# EAGLE library part 9565517513 (library D-Sub Connectors)
CONN D-SUB HD RCPT 78P VERT SLDR Manufacturer's datasheet <https://b2b.harting.com/files/download/PRD/PDF_TS/0956551X513_100513366DRW001C.pdf>
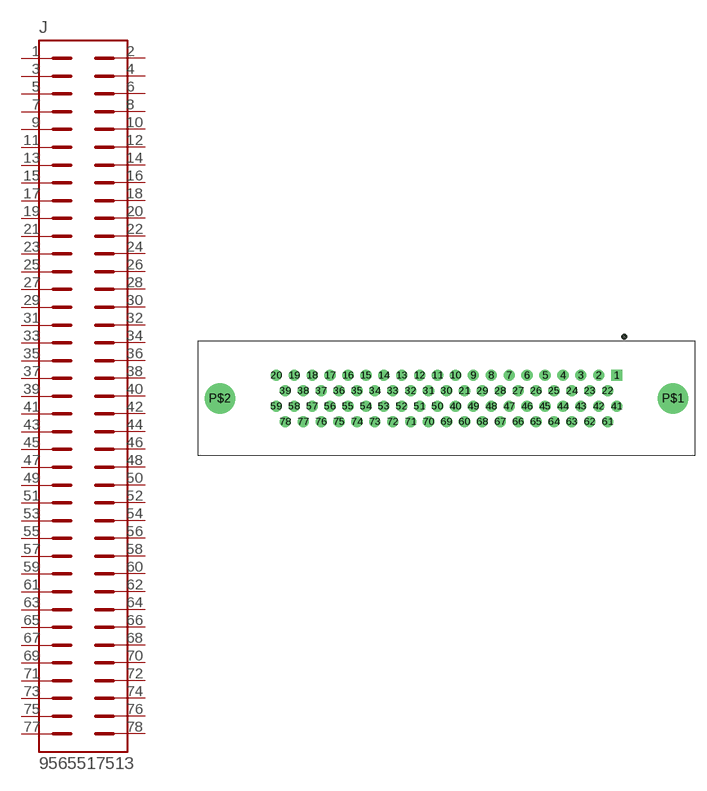
[diagram p12: symbol with the pads of 9565517513; footprint 9565517513]

Designator prefix J

## 9565517513 (CREATED_BY: PCBLayout.com; DIGIKEY_PART_NO: 1195-2345-ND; MANUFACTURER: HARTING; MPN: 9565517513)  [9565517513]
1  1  pas
2  2  pas
3  3  pas
4  4  pas
5  5  pas
6  6  pas
7  7  pas
8  8  pas
9  9  pas
10  10  pas
11  11  pas
12  12  pas
13  13  pas
14  14  pas
15  15  pas
16  16  pas
17  17  pas
18  18  pas
19  19  pas
20  20  pas
21  21  pas
22  22  pas
23  23  pas
24  24  pas
25  25  pas
26  26  pas
27  27  pas
28  28  pas
29  29  pas
30  30  pas
31  31  pas
32  32  pas
33  33  pas
34  34  pas
35  35  pas
36  36  pas
37  37  pas
38  38  pas
39  39  pas
40  40  pas
41  41  pas
42  42  pas
43  43  pas
44  44  pas
45  45  pas
46  46  pas
47  47  pas
48  48  pas
49  49  pas
50  50  pas
51  51  pas
52  52  pas
53  53  pas
54  54  pas
55  55  pas
56  56  pas
57  57  pas
58  58  pas
59  59  pas
60  60  pas
61  61  pas
62  62  pas
63  63  pas
64  64  pas
65  65  pas
66  66  pas
67  67  pas
68  68  pas
69  69  pas
70  70  pas
71  71  pas
72  72  pas
73  73  pas
74  74  pas
75  75  pas
76  76  pas
77  77  pas
78  78  pas

## Footprint 9565517513 (pad centres in mm)
drill 1 square: 1 22.9,3.12
drill 1: 2 20.49,3.12; 3 18.08,3.12; 4 15.67,3.12; 5 13.26,3.12; 6 10.85,3.12; 7 8.44,3.12; 8 6.03,3.12; 9 3.62,3.12; 10 1.21,3.12; 11 -1.21,3.12; 12 -3.62,3.12; 13 -6.03,3.12; 14 -8.44,3.12; 15 -10.85,3.12; 16 -13.26,3.12; 17 -15.67,3.12; 18 -18.08,3.12; 19 -20.49,3.12; 20 -22.9,3.12; 21 2.42,1.04; 22 21.7,1.04; 23 19.29,1.04; 24 16.88,1.04; 25 14.47,1.04; 26 12.06,1.04; 27 9.65,1.04; 28 7.24,1.04; 29 4.83,1.04; 30 0,1.04; 31 -2.41,1.04; 32 -4.82,1.04; 33 -7.23,1.04; 34 -9.64,1.04; 35 -12.05,1.04; 36 -14.46,1.04; 37 -16.87,1.04; 38 -19.28,1.04; 39 -21.69,1.04; 40 1.21,-1.04; 41 22.9,-1.04; 42 20.49,-1.04; 43 18.08,-1.04; 44 15.67,-1.04; 45 13.26,-1.04; 46 10.85,-1.04; 47 8.44,-1.04; 48 6.03,-1.04; 49 3.62,-1.04; 50 -1.21,-1.04; 51 -3.62,-1.04; 52 -6.03,-1.04; 53 -8.44,-1.04; 54 -10.85,-1.04; 55 -13.26,-1.04; 56 -15.67,-1.04; 57 -18.08,-1.04; 58 -20.49,-1.04; 59 -22.9,-1.04; 60 2.42,-3.12; 61 21.7,-3.12; 62 19.29,-3.12; 63 16.88,-3.12; 64 14.47,-3.12; 65 12.06,-3.12; 66 9.65,-3.12; 67 7.24,-3.12; 68 4.83,-3.12; 69 0,-3.12; 70 -2.41,-3.12; 71 -4.82,-3.12; 72 -7.23,-3.12; 73 -9.64,-3.12; 74 -12.05,-3.12; 75 -14.46,-3.12; 76 -16.87,-3.12; 77 -19.28,-3.12; 78 -21.69,-3.12
drill 3.1: P$1 30.5,0; P$2 -30.5,0